# EAGLE library part TDA7056B_VOL-CONTROL (library Audio-Power-amlifier V.2.0)
The TDA7056B is a mono Bridge-Tied Load (BTL) output amplifier with DC volume control. It is designed for use in TV and monitors, but is also suitable for battery-fed portable recorders and radios. The device is contained in a 9-pin medium power package. A Missing Current Limiter (MCL) is built in. The MCL circuit is activated when the difference in current between the output terminal of each amplifier exceeds 100 mA (300 mA typ.). This level of 100 mA allows for headphone applications (single-ended).
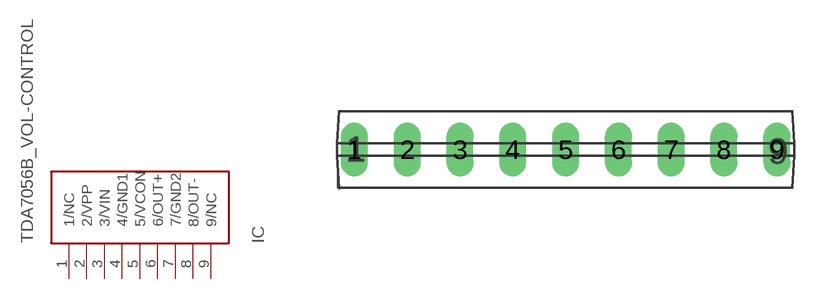
[diagram p109: symbol with the pads of SOT110-1; footprint SOT110-1]

Designator prefix IC

## TDA7056B_VOL-CONTROL  [SOT110-1]
1  1/NC  nc
2  2/VPP  pwr
3  3/VIN  in
4  4/GND1  pwr
5  5/VCON  nc
6  6/OUT+  out
7  7/GND2  pwr
8  8/OUT-  out
9  9/NC  nc

## Footprint SOT110-1 (pad centres in mm)
SIL9MPF: plastic single in-line medium power package with fin; 9 leads
drill 0.8 long: 1 -10.16,0; 2 -7.62,0; 3 -5.08,0; 4 -2.54,0; 5 0,0; 6 2.54,0; 7 5.08,0; 8 7.62,0; 9 10.16,0